# EAGLE library part FDC610PZ (library transistor-fet)
P-Channel MOSFET PowerTrench, 30V, 4.9A, 42mOhm
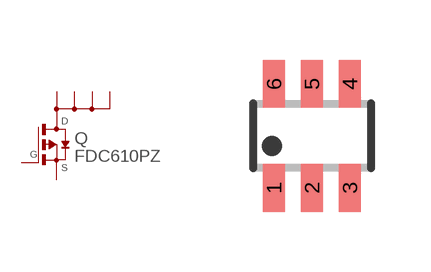
[diagram p19: symbol with the pads of SSOT-6; footprint SSOT-6]

Designator prefix Q

## FDC610PZ  [SSOT-6]
1  D1  pas
2  D2  pas
3  G  pas
4  S  pas
5  D4  pas
6  D3  pas

## Footprint SSOT-6 (pad centres in mm)
Small Outline Transistor
smd 0.55 x 1.2: 1 -0.95,-1.3; 2 0,-1.3; 3 0.95,-1.3; 4 0.95,1.3; 5 0,1.3; 6 -0.95,1.3